# Altium footprint library DIP794W56P254L946H432Q8N.PcbLib: 1 footprints
Each footprint in its own frame and in the unit in brackets; x right, y up, seen from the top. Pads: shape width x height; smd on the part's side, far side on the other; paste and mask are expansions set on the pad; w line width, h text height; cw(c..) or ccw(c..) is an arc to the next point about the centre after c.
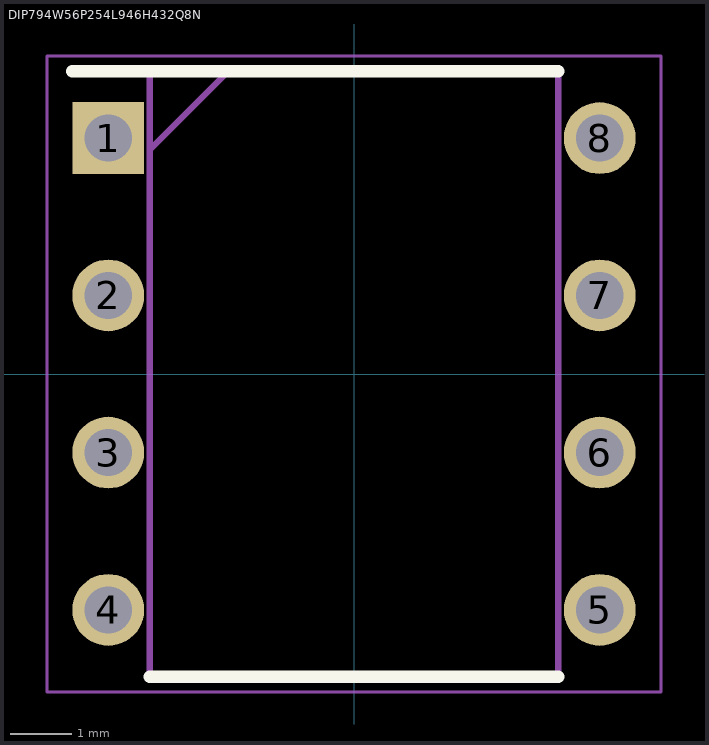
[diagram p0: the footprint, top view; thin cyan lines are the x and y axes]

## DIP794W56P254L946H432Q8N [mm]
pads (8):
  rect 1.16x1.16 / inner round 1.16 / far side rect 1.16x1.16 hole 0.76: 1(-3.97,3.81)
  round 1.16 hole 0.76: 2(-3.97,1.27) 3(-3.97,-1.27) 4(-3.97,-3.81) 5(3.97,-3.81) 6(3.97,-1.27) 7(3.97,1.27) 8(3.97,3.81)
Top Overlay:
  lines w0.2: -4.55,4.89 3.3,4.89 ; -3.3,-4.89 3.3,-4.89
Mechanical 15:
  lines w0.1: -3.3,3.62 -2.03,4.89 ; -3.3,-4.89 3.3,-4.89 3.3,4.89 -3.3,4.89 -3.3,-4.89
Mechanical 20:
  lines w0.05: -4.96,-5.14 4.96,-5.14 4.96,5.14 -4.96,5.14 -4.96,-5.14